# Altium integrated library TI Differential Amplifier.IntLib: 2 symbols
Pins are listed as number, name and electrical type; pins without a type are passive.

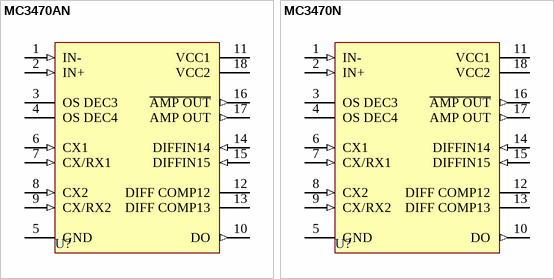
[diagram p0: symbols MC3470AN to MC3470N]

## MC3470AN
designator U?
Floppy Disk Read-Amplifier System; Published: 15-Apr-2002; LatestRevisionDate: 04-Mar-2005; LatestRevisionNote: Stylized 3D Model Added.; DatasheetVersion: Feb-1988; PackageVersion: Oct-1995; PackageReference: N018; Publisher: Altium Limited; PackageDescription: DIP; 18 Leads; Row Spacing 7.62 mm; Pitch 2.54 mm; ComponentLink1Description: Manufacturer Link; ComponentLink1URL: http://www.ti.com/
footprint N018 (DIP; 18 Leads; Row Spacing 7.62 mm; Pitch 2.54 mm)
3D model N018 (DIP; 18 Leads; Row Spacing 7.62 mm; Pitch 2.54 mm)
pins: 1 IN- (in), 2 IN+ (in), 3 OS DEC3, 4 OS DEC4, 5 GND (power), 6 CX1 (in), 7 CX/RX1 (in), 8 CX2 (in), 9 CX/RX2 (in), 10 DO (out), 11 VCC1 (power), 12 DIFF COMP12, 13 DIFF COMP13, 14 DIFFIN14 (in), 15 DIFFIN15 (in), 16 ~{AMP OUT} (out), 17 AMP OUT (out), 18 VCC2 (power)

## MC3470N
designator U?
Floppy Disk Read-Amplifier System; Published: 15-Apr-2002; LatestRevisionDate: 04-Mar-2005; LatestRevisionNote: Stylized 3D Model Added.; DatasheetVersion: Feb-1988; PackageVersion: Oct-1995; PackageReference: N018; Publisher: Altium Limited; PackageDescription: DIP; 18 Leads; Row Spacing 7.62 mm; Pitch 2.54 mm; ComponentLink1Description: Manufacturer Link; ComponentLink1URL: http://www.ti.com/
footprint N018 (DIP; 18 Leads; Row Spacing 7.62 mm; Pitch 2.54 mm)
3D model N018 (DIP; 18 Leads; Row Spacing 7.62 mm; Pitch 2.54 mm)
pins: 1 IN- (in), 2 IN+ (in), 3 OS DEC3, 4 OS DEC4, 5 GND (power), 6 CX1 (in), 7 CX/RX1 (in), 8 CX2 (in), 9 CX/RX2 (in), 10 DO (out), 11 VCC1 (power), 12 DIFF COMP12, 13 DIFF COMP13, 14 DIFFIN14 (in), 15 DIFFIN15 (in), 16 ~{AMP OUT} (out), 17 AMP OUT (out), 18 VCC2 (power)